# EAGLE library part STM8L152C4_C6TX (library IPNS_Lib_v0.1)
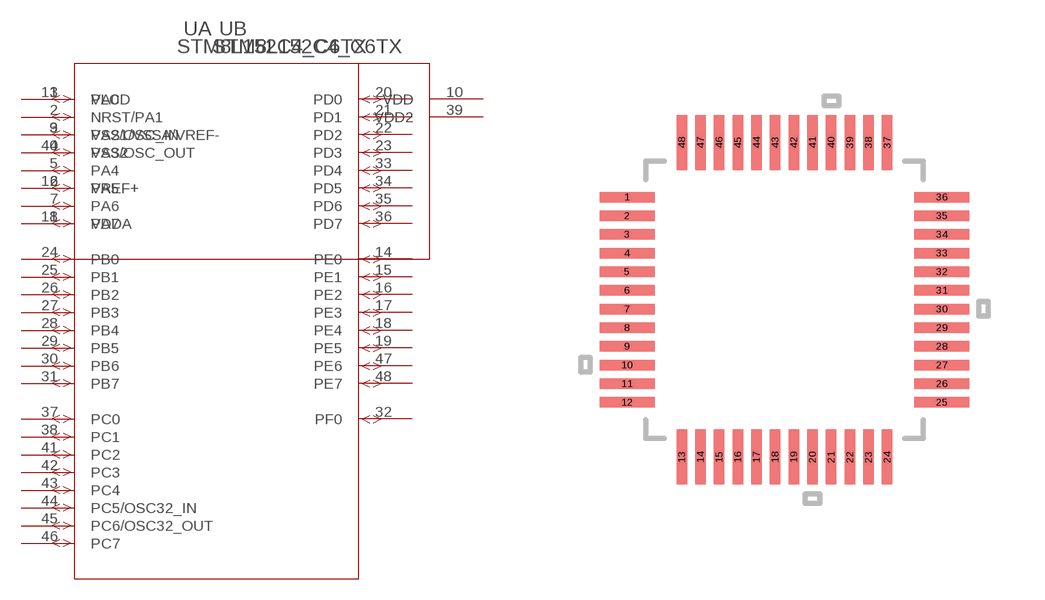
[diagram p0: symbol with the pads of LQFP48-7X7MM; footprint LQFP48-7X7MM]

Designator prefix U; gates A=STM8L152C4_C6TX B=STM8L152C4_C6TX_00_1_1

## STM8L152C4_C6TX (COPYRIGHT: Copyright (C) 2016 Accelerated Designs. All rights reserved; MANUFACTURER_PART_NUMBER: stm8l152c4_c6tx; VENDOR: ST Microelectronics)  [LQFP48-7X7MM]
1  A:PA0
2  A:NRST/PA1
3  A:PA2/OSC_IN
4  A:PA3/OSC_OUT
5  A:PA4
6  A:PA5
7  A:PA6
8  A:PA7
9  B:VSS1/VSSA/VREF-  pwr
10  B:VDD  pwr
11  B:VDDA  pwr
12  B:VREF+  pwr
13  B:VLCD  pwr
14  A:PE0
15  A:PE1
16  A:PE2
17  A:PE3
18  A:PE4
19  A:PE5
20  A:PD0
21  A:PD1
22  A:PD2
23  A:PD3
24  A:PB0
25  A:PB1
26  A:PB2
27  A:PB3
28  A:PB4
29  A:PB5
30  A:PB6
31  A:PB7
32  A:PF0
33  A:PD4
34  A:PD5
35  A:PD6
36  A:PD7
37  A:PC0
38  A:PC1
39  B:VDD2  pwr
40  B:VSS2  pwr
41  A:PC2
42  A:PC3
43  A:PC4
44  A:PC5/OSC32_IN
45  A:PC6/OSC32_OUT
46  A:PC7
47  A:PE6
48  A:PE7

## Footprint LQFP48-7X7MM (pad centres in mm)
smd 1.473 x 0.279: 1 -4.216,2.75; 2 -4.216,2.25; 3 -4.216,1.75; 4 -4.216,1.25; 5 -4.216,0.75; 6 -4.216,0.25; 7 -4.216,-0.25; 8 -4.216,-0.75; 9 -4.216,-1.25; 10 -4.216,-1.75; 11 -4.216,-2.25; 12 -4.216,-2.75; 25 4.216,-2.75; 26 4.216,-2.25; 27 4.216,-1.75; 28 4.216,-1.25; 29 4.216,-0.75; 30 4.216,-0.25; 31 4.216,0.25; 32 4.216,0.75; 33 4.216,1.25; 34 4.216,1.75; 35 4.216,2.25; 36 4.216,2.75
smd 0.279 x 1.473: 13 -2.75,-4.216; 14 -2.25,-4.216; 15 -1.75,-4.216; 16 -1.25,-4.216; 17 -0.75,-4.216; 18 -0.25,-4.216; 19 0.25,-4.216; 20 0.75,-4.216; 21 1.25,-4.216; 22 1.75,-4.216; 23 2.25,-4.216; 24 2.75,-4.216; 37 2.75,4.216; 38 2.25,4.216; 39 1.75,4.216; 40 1.25,4.216; 41 0.75,4.216; 42 0.25,4.216; 43 -0.25,4.216; 44 -0.75,4.216; 45 -1.25,4.216; 46 -1.75,4.216; 47 -2.25,4.216; 48 -2.75,4.216